# Altium footprint library DIP2200W51P200L3294H279Q20P.PcbLib: 1 footprints
Each footprint in its own frame and in the unit in brackets; x right, y up, seen from the top. Pads: shape width x height; smd on the part's side, far side on the other; paste and mask are expansions set on the pad; w line width, h text height; cw(c..) or ccw(c..) is an arc to the next point about the centre after c.
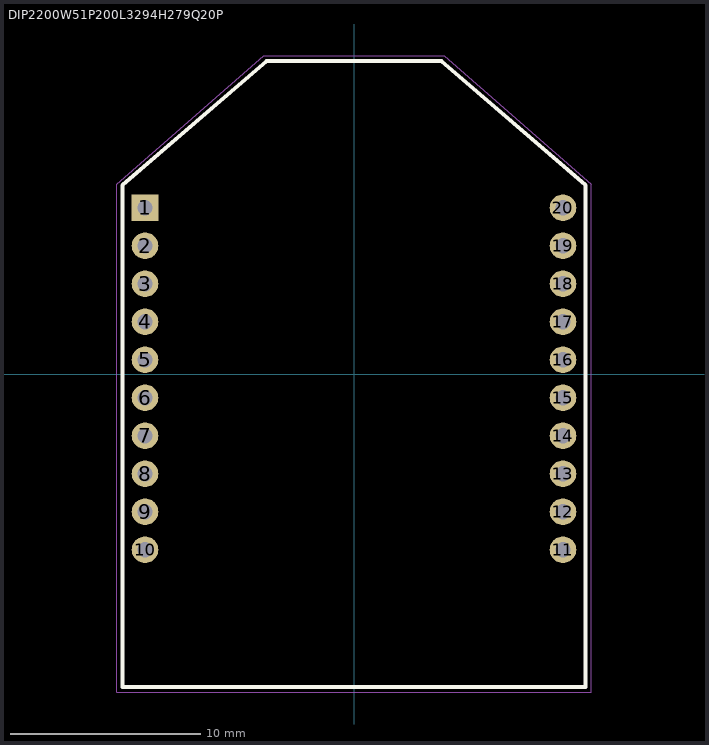
[diagram p0: the footprint, top view; thin cyan lines are the x and y axes]

## DIP2200W51P200L3294H279Q20P [mm]
pads (20):
  rect 1.4x1.4 / inner round 1.4 / far side rect 1.4x1.4 hole 0.8 mask+0.102: 1(-11,8.75)
  round 1.4 hole 0.8 mask+0.102: 2(-11,6.75) 3(-11,4.75) 4(-11,2.75) 5(-11,0.75) 6(-11,-1.25) 7(-11,-3.25) 8(-11,-5.25) 9(-11,-7.25) 10(-11,-9.25) 11(11,-9.25) 12(11,-7.25) 13(11,-5.25) 14(11,-3.25) 15(11,-1.25) 16(11,0.75) 17(11,2.75) 18(11,4.75) 19(11,6.75) 20(11,8.75)
Top Overlay:
  lines w0.2: -12.19,-16.47 12.19,-16.47 12.19,9.94 4.6,16.47 -4.6,16.47 -12.19,9.94 -12.19,-16.47
Courtyard Top:
  lines w0.05: -12.5,-16.75 -12.5,10 -4.75,16.75 4.75,16.75 12.5,10 12.5,-16.75 -12.5,-16.75
3D body "step_temp.STEP": height 7.67, standoff -4.06, extent -12.192,-16.472 12.192,29.172